# Altium footprint library UserPcbLib.PcbLib: 107 footprints (part 1 of 7)
Each footprint in its own frame and in the unit in brackets; x right, y up, seen from the top. Pads: shape width x height; smd on the part's side, far side on the other; paste and mask are expansions set on the pad; w line width, h text height; cw(c..) or ccw(c..) is an arc to the next point about the centre after c.
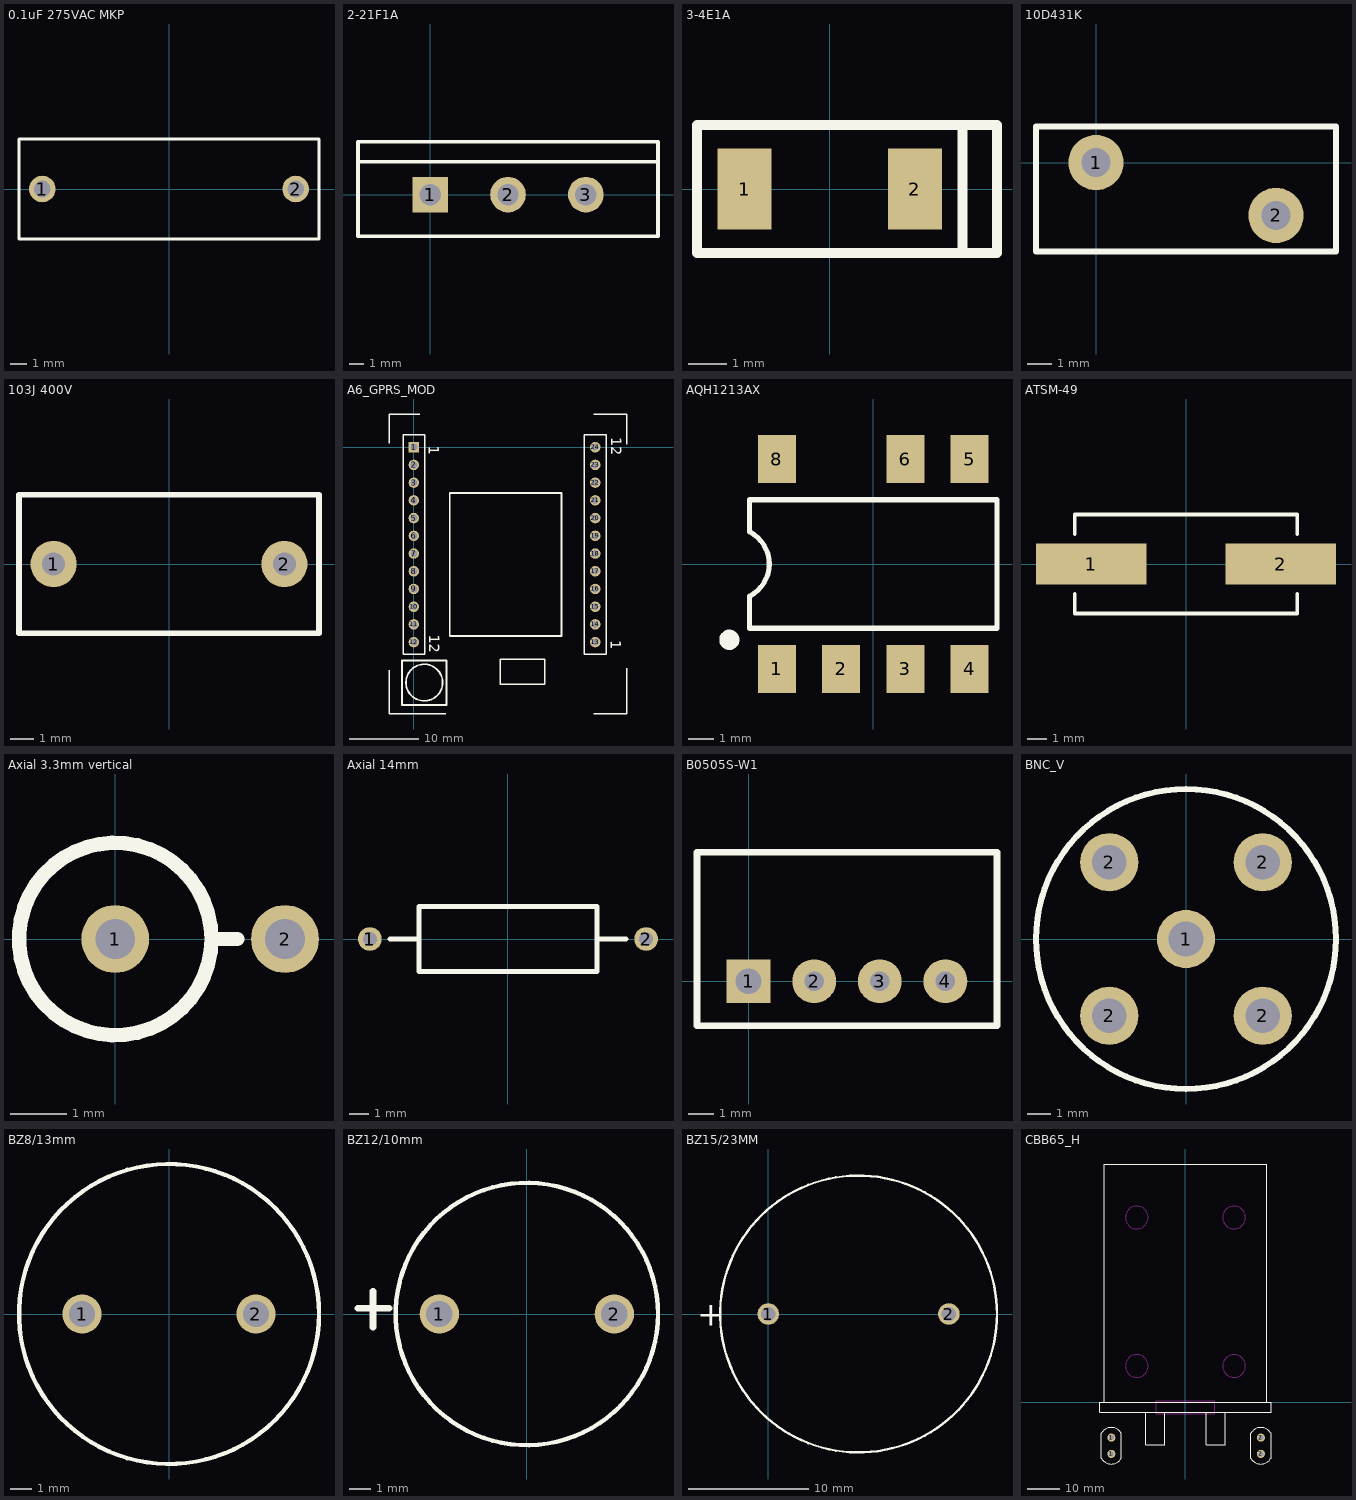
[diagram p0: the footprints below, top view; thin cyan lines are the x and y axes]

## 0.1uF 275VAC MKP [mm] "MKP Capactor 18x6"
height 13.5
pads (2):
  round 1.6 hole 1: 1(-7.6,0) 2(7.6,0)
Top Overlay:
  lines w0.2: -9,-3 -9,3 9,3 9,-3 -9,-3

## 2-21F1A [mm] "Toshiba"
pads (3):
  rect 2.5x2.5 hole 1.5: 1(0,0)
  round 2.5 hole 1.5: 2(5.45,0) 3(10.9,0)
Top Overlay:
  lines w0.254: -5.05,2.3 -5.05,3.697 15.95,3.697 15.95,2.3 ; -5.05,2.3 15.95,2.3 ; -5.05,2.3 -5.05,-2.9 15.95,-2.9 15.95,2.3

## 3-4E1A [mm] "TOSHIBA Schottky Barrier Rectifier"
height 0.98
pads (2):
  rect 1.4x2.1 smd: 1(-2.2,0) 2(2.2,0)
Top Overlay:
  lines w0.254: 3.429,-1.651 3.429,1.651 ; -3.429,-1.651 -3.429,1.651 4.318,1.651 4.318,-1.651 -3.429,-1.651
3D body: height 0.98, standoff 0, extent -1.905,-1.27 1.905,1.27

## 10D431K [mm] "Varistor 275VAC dia.12.5 P7.5"
height 5.2
pads (2):
  round 2.3 hole 1.2: 1(0,0) 2(7.5,-2.2)
Top Overlay:
  lines w0.254: -2.5,-3.7 10,-3.7 10,1.5 -2.5,1.5 -2.5,-3.7

## 103J 400V [mm] "Metal film capacitor"
height 10
pads (2):
  round 2 hole 1: 1(-5,0) 2(5,0)
Top Overlay:
  lines w0.254: -6.5,-3 6.5,-3 6.5,3 -6.5,3 -6.5,-3

## A6_GPRS_MOD [mm] "2X排母2.54X12"
pads (24):
  rect 1.5x1.5 hole 1: 1(0,0)
  round 1.5 hole 1: 2(0,-2.54) 3(0,-5.08) 4(0,-7.62) 5(0,-10.16) 6(0,-12.7) 7(0,-15.24) 8(0,-17.78) 9(0,-20.32) 10(0,-22.86) 11(0,-25.4) 12(0,-27.94) 13(26,-27.94) 14(26,-25.4) 15(26,-22.86) 16(26,-20.32) 17(26,-17.78) 18(26,-15.24) 19(26,-12.7) 20(26,-10.16) 21(26,-7.62) 22(26,-5.08) 23(26,-2.54) 24(26,0)
Top Overlay:
  circle w0.254: c1.499,-33.731 r2.627
  lines w0.2: -3.5,-31.984 -3.5,-38.24 4.56,-38.24 ; -3.5,0.564 -3.5,4.76 0.879,4.76 ; 25.817,4.76 30.5,4.76 30.5,0.412 ; 25.819,-38.24 30.5,-38.24 30.5,-31.705 ; -1.549,-29.71 -1.549,1.77 1.601,1.77 1.601,-29.71 -1.549,-29.71 ; 24.451,-29.71 27.601,-29.71 27.601,1.77 24.451,1.77 24.451,-29.71
  lines w0.254: 12.395,-33.96 12.395,-30.378 ; 12.421,-33.985 18.771,-33.985 18.771,-30.378 12.395,-30.378 ; 12.421,-30.404 12.395,-30.378 ; -1.702,-36.957 -1.702,-30.557 4.698,-30.557 4.698,-36.957 -1.702,-36.957 ; 5.156,-27.076 5.156,-6.579 21.184,-6.579 21.184,-27.076 5.156,-27.076
  text "1" at 2.108,0.178 h1.52
  text "12" at 2.21,-26.848 h1.52
  text "12" at 28.296,1.448 h1.52
  text "1" at 28.194,-27.686 h1.52
3D body: height 10.1, standoff 8.5, extent -3.581,-38.278 30.505,4.75
3D body: height 8.5, standoff 0, extent -1.626,-29.769 1.702,1.854
3D body: height 8.5, standoff 0, extent 24.374,-29.769 27.702,1.854
3D body: height 37, standoff 10.1, extent -1.702,-37.008 4.75,-30.556
3D body: height 36.99, standoff 31.01, extent -1.26,-30.658 4.716,4.342

## AQH1213AX [mm]
pads (7):
  rect 1.5x1.9 smd: 1(-3.81,-4.15) 2(-1.27,-4.15) 3(1.27,-4.15) 4(3.81,-4.15) 5(3.81,4.15) 6(1.27,4.15) 8(-3.81,4.15)
Top Overlay:
  circle w0.4: c-5.69,-2.997 r0.2
  lines w0.2: -4.89,-2.54 4.89,-2.54 4.89,2.54 -4.89,2.54 -4.89,1.27 cw(c-5.542,0) -4.89,-1.27 -4.89,-2.54

## ATSM-49 [mm]
pads (2):
  rect 5.55x2.05 smd: 1(-4.775,0) 2(4.775,0)
Top Overlay:
  lines w0.2: -5.6,-1.5 -5.6,-2.5 5.6,-2.5 5.6,-1.5 ; -5.6,1.5 -5.6,2.5 5.6,2.5 5.6,1.5
3D body: height 4, standoff 1, extent -5.484,-2.513 5.51,2.513
3D body: height 1, standoff 0, extent -5.6,-2.5 5.6,2.5

## Axial 3.3mm vertical [mm] "Axial resistor 9x3.3mm pitch 14mm"
pads (2):
  round 1.2 hole 0.7: 1(0,0) 2(3,0)
Top Overlay:
  circle w0.254: c0,0 r1.7
  lines w0.254: 1.848,0 2.159,0

## Axial 14mm [mm] "Axial resistor 9x3.3mm pitch 14mm"
pads (2):
  round 1.2 hole 0.7: 1(-7,0) 2(7,0)
Top Overlay:
  lines w0.254: -5.969,0 -4.5,0 ; 4.5,0 5.969,0 ; -4.5,-1.65 4.5,-1.65 4.5,1.65 -4.5,1.65 -4.5,-1.65

## B0505S-W1 [mm] "DC-DC converter for RS485"
height 9.65
pads (4):
  rect 1.7x1.7 hole 1: 1(0,0)
  round 1.7 hole 0.762: 2(2.54,0) 3(5.08,0) 4(7.62,0)
Top Overlay:
  lines w0.254: -2,-1.73 9.62,-1.73 9.62,5 -2,5 -2,-1.73
3D body: height 10, standoff 0, extent -1.999,-1.729 9.619,4.999

## BNC_V [mm] "BNC vertical"
pads (5):
  round 2.5 hole 1.5: 1(0,0) 2(-3.3,-3.3) 2(-3.3,3.3) 2(3.3,-3.3) 2(3.3,3.3)
Top Overlay:
  circle w0.254: c0,0 r6.452

## BZ8/13mm [mm]
pads (2):
  round 1.8 hole 1.2: 1(-4,0) 2(4,0)
Top Overlay:
  circle w0.2: c0,0 r6.9
3D body: height 8, standoff 0.1, extent -6.91,-6.91 6.91,6.91

## BZ12/10mm [mm]
pads (2):
  round 1.8 hole 1.2: 1(-4,0) 2(4,0)
Top Overlay:
  circle w0.2: c0,0 r6
  lines w0.3: -7.722,0.254 -6.299,0.254 ; -7.036,-0.61 -7.036,1.041
3D body: height 10.1, standoff 0.1, extent -6.009,-6.009 6.009,6.009

## BZ15/23MM [mm]
pads (2):
  round 1.8 hole 1.2: 1(0,0) 2(15,0)
Top Overlay:
  circle w0.2: c7.5,0 r11.5
  text "+" at -5.918,-0.991 h2

## CBB65_H [mm] "Faratronic Film Cap 25uF 450VAC"
pads (4):
  round 2.5 hole 1.5: 1(-22.86,-15.875) 1(-22.86,-10.875) 2(23.241,-15.875) 2(23.241,-10.875)
Top Overlay:
  lines w0.2: -25,0 -25,73.5 25,73.5 25,0 ; -12.2,-3 -12.2,-13 -6.4,-13 -6.4,-3 ; 6.4,-3 6.4,-13 12.2,-13 12.2,-3 ; -26.5,-3 -26.5,0 26.5,0 26.5,-3 -26.5,-3
  lines w0.254: -25.994,-17.162 ccw(c-22.86,-15.407) -19.726,-17.162 -19.726,-9.588 ccw(c-22.86,-11.343) -25.994,-9.588 -25.994,-17.162 ; 20.107,-17.162 ccw(c23.241,-15.407) 26.375,-17.162 26.375,-9.588 ccw(c23.241,-11.343) 20.107,-9.588 20.107,-17.162
Keep-Out Layer:
  circle w0.254: c15,57 r3.5
  circle w0.254: c-15,57 r3.5
  circle w0.254: c-15,11.2 r3.5
  circle w0.254: c15,11.2 r3.5
  lines w0.2: -9.017,-3.556 -9.017,0.508 9.017,0.508 9.017,-3.556 -9.017,-3.556